# Altium schematic symbol library LM1117MPX-5P0NOPB.SchLib: 1 symbol
Pins are listed as number, name and electrical type; pins without a type are passive.

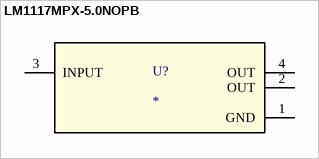
[diagram p0: symbol LM1117MPX-5.0NOPB]

## LM1117MPX-5.0NOPB
designator U?
No Description Available; Mfr_Name: Texas Instruments; TYPE: TYPE; RefDes: RefDes
footprint DCY0004A_L
pins: 1 GND (power), 2 OUT (power), 3 INPUT (power), 4 OUT (power)